# EAGLE library part RSM-116-02-S-D-LC (library Mechanical)
Samtec 2x16, 0.05'' pitch, Receptacle Surface Mount with Locking Clip
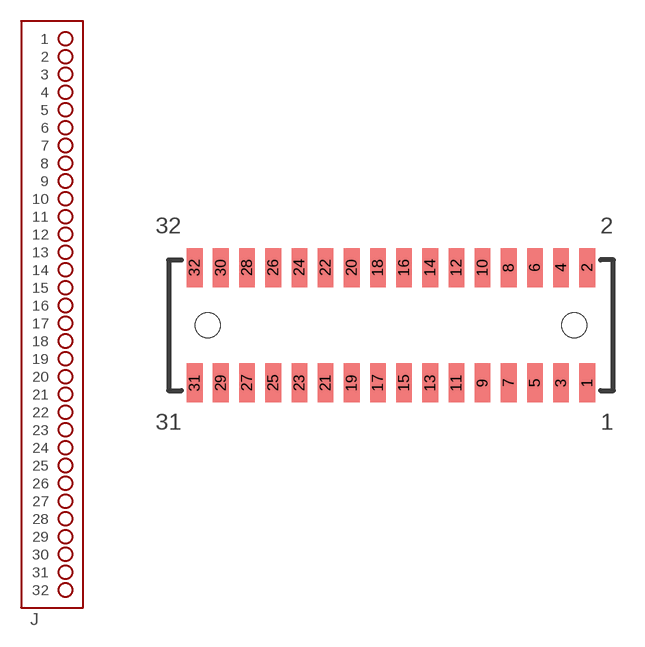
[diagram p74: symbol with the pads of RSM-116-02-S-D-LC; footprint RSM-116-02-S-D-LC]

Designator prefix J

## RSM-116-02-S-D-LC  [RSM-116-02-S-D-LC]
1  1  pas
2  2  pas
3  3  pas
4  4  pas
5  5  pas
6  6  pas
7  7  pas
8  8  pas
9  9  pas
10  10  pas
11  11  pas
12  12  pas
13  13  pas
14  14  pas
15  15  pas
16  16  pas
17  17  pas
18  18  pas
19  19  pas
20  20  pas
21  21  pas
22  22  pas
23  23  pas
24  24  pas
25  25  pas
26  26  pas
27  27  pas
28  28  pas
29  29  pas
30  30  pas
31  31  pas
32  32  pas

## Footprint RSM-116-02-S-D-LC (pad centres in mm)
Samtec surface mount 2x16 double row receptacle witch locking clip
smd 0.762 x 1.905: 1 9.525,-2.794; 2 9.525,2.794; 3 8.255,-2.794; 4 8.255,2.794; 5 6.985,-2.794; 6 6.985,2.794; 7 5.715,-2.794; 8 5.715,2.794; 9 4.445,-2.794; 10 4.445,2.794; 11 3.175,-2.794; 12 3.175,2.794; 13 1.905,-2.794; 14 1.905,2.794; 15 0.635,-2.794; 16 0.635,2.794; 17 -0.635,-2.794; 18 -0.635,2.794; 19 -1.905,-2.794; 20 -1.905,2.794; 21 -3.175,-2.794; 22 -3.175,2.794; 23 -4.445,-2.794; 24 -4.445,2.794; 25 -5.715,-2.794; 26 -5.715,2.794; 27 -6.985,-2.794; 28 -6.985,2.794; 29 -8.255,-2.794; 30 -8.255,2.794; 31 -9.525,-2.794; 32 -9.525,2.794
hole 1.194 at -8.89,0
hole 1.194 at 8.89,0